# EAGLE library part TSW-109-02-S-D (library con-samtec)
THROUGH-HOLE .025" SQ POST HEADER Source: Samtec TSW.pdf
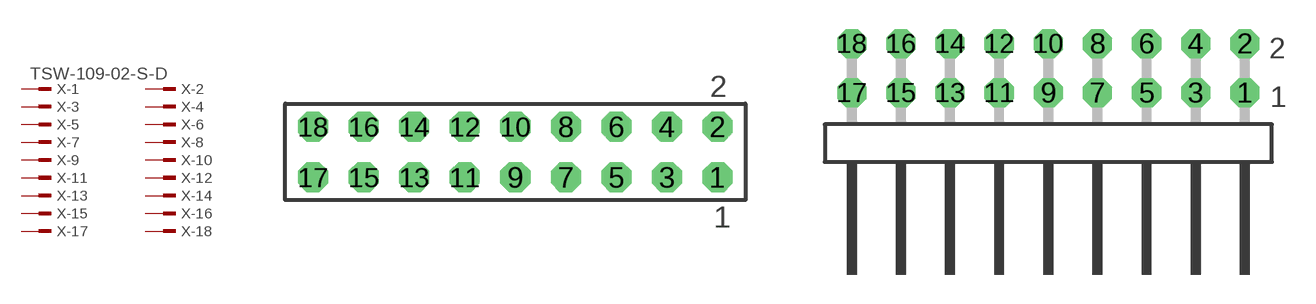
[diagram p329: symbol with the pads of TSW-109-02-S-D; footprints TSW-109-02-S-D, TSW-109-02-S-D-RA]

Designator prefix X; gates -1=MPINV -2=MPIN -3=MPIN -4=MPIN -5=MPIN -6=MPIN -7=MPIN -8=MPIN -9=MPIN -10=MPIN -11=MPIN -12=MPIN -13=MPIN -14=MPIN -15=MPIN -16=MPIN -17=MPIN -18=MPIN

## TSW-109-02-S-D (OC_FARNELL: unknown; OC_NEWARK: unknown)  [TSW-109-02-S-D]
1  -1:1  pas
2  -2:1  pas
3  -3:1  pas
4  -4:1  pas
5  -5:1  pas
6  -6:1  pas
7  -7:1  pas
8  -8:1  pas
9  -9:1  pas
10  -10:1  pas
11  -11:1  pas
12  -12:1  pas
13  -13:1  pas
14  -14:1  pas
15  -15:1  pas
16  -16:1  pas
17  -17:1  pas
18  -18:1  pas

## TSW-109-02-S-D-RA (OC_FARNELL: unknown; OC_NEWARK: unknown)  [TSW-109-02-S-D-RA]
Pads as for TSW-109-02-S-D

## Footprint TSW-109-02-S-D (pad centres in mm)
THROUGH-HOLE .025" SQ POST HEADER Source: Samtec TSW.pdf
drill 1 pad 1.5 octagon: 1 10.16,-1.27; 2 10.16,1.27; 3 7.62,-1.27; 4 7.62,1.27; 5 5.08,-1.27; 6 5.08,1.27; 7 2.54,-1.27; 8 2.54,1.27; 9 0,-1.27; 10 0,1.27; 11 -2.54,-1.27; 12 -2.54,1.27; 13 -5.08,-1.27; 14 -5.08,1.27; 15 -7.62,-1.27; 16 -7.62,1.27; 17 -10.16,-1.27; 18 -10.16,1.27

## Footprint TSW-109-02-S-D-RA (pad centres in mm)
THROUGH-HOLE .025" SQ POST HEADER Source: Samtec TSW.pdf
drill 1 pad 1.5 octagon: 1 10.16,1.524; 2 10.16,4.064; 3 7.62,1.524; 4 7.62,4.064; 5 5.08,1.524; 6 5.08,4.064; 7 2.54,1.524; 8 2.54,4.064; 9 0,1.524; 10 0,4.064; 11 -2.54,1.524; 12 -2.54,4.064; 13 -5.08,1.524; 14 -5.08,4.064; 15 -7.62,1.524; 16 -7.62,4.064; 17 -10.16,1.524; 18 -10.16,4.064